# Altium footprint library SHT21.PcbLib: 1 footprints
Each footprint in its own frame and in the unit in brackets; x right, y up, seen from the top. Pads: shape width x height; smd on the part's side, far side on the other; paste and mask are expansions set on the pad; w line width, h text height; cw(c..) or ccw(c..) is an arc to the next point about the centre after c.
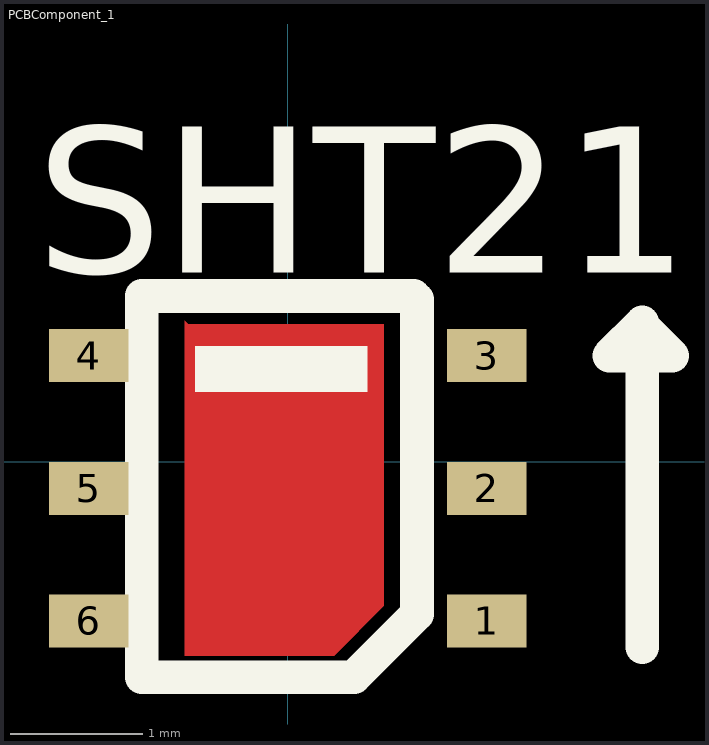
[diagram p0: the footprint, top view; thin cyan lines are the x and y axes]

## PCBComponent_1 [mm]
pads (6):
  rect 0.6x0.4 smd: 1(1.5,-1.2) 2(1.5,-0.2) 3(1.5,0.8) 4(-1.5,0.8) 5(-1.5,-0.2) 6(-1.5,-1.2)
Top Layer:
  region: -0.775,-1.463 0.35,-1.463 0.725,-1.088 0.725,1.037 -0.75,1.037 -0.775,1.062
Top Overlay:
  rectangle: -0.7,0.525 0.6,0.875
  lines w0.254: 2.675,-1.4 2.675,1.05 ; 2.675,1.05 2.425,0.8 2.9,0.8 2.675,1.025 2.675,1.05 ; -1.1,-1.625 -1.1,1.25 0.95,1.25 0.975,1.225 0.975,-1.15 0.5,-1.625 -1.1,-1.625
  text "SHT21" at -1.9,1.425 h1.52